# EAGLE library part TPS2421 (library FSAE Electric)
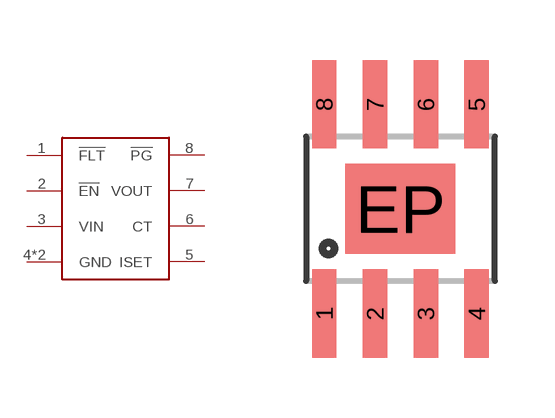
[diagram p10: symbol with the pads of SO-8-PO; footprint SO-8-PO]

Designator prefix U1

## TPS2421 (PARTNO: TPS2421-2DDAR)  [SO-8-PO]
1  !FLT
2  !EN
3  VIN
4  GND
5  ISET
6  CT
7  VOUT
8  !PG
EP  GND

## Footprint SO-8-PO (pad centres in mm)
smd 0.61 x 2.21: 1 -1.905,-2.616; 2 -0.635,-2.616; 3 0.635,-2.616; 4 1.905,-2.616; 5 1.905,2.616; 6 0.635,2.616; 7 -0.635,2.616; 8 -1.905,2.616
smd 2.75 x 2.25: EP 0,0